# Altium footprint library Cap_EL.PcbLib: 28 footprints (part 1 of 2)
Each footprint in its own frame and in the unit in brackets; x right, y up, seen from the top. Pads: shape width x height; smd on the part's side, far side on the other; paste and mask are expansions set on the pad; w line width, h text height; cw(c..) or ccw(c..) is an arc to the next point about the centre after c.
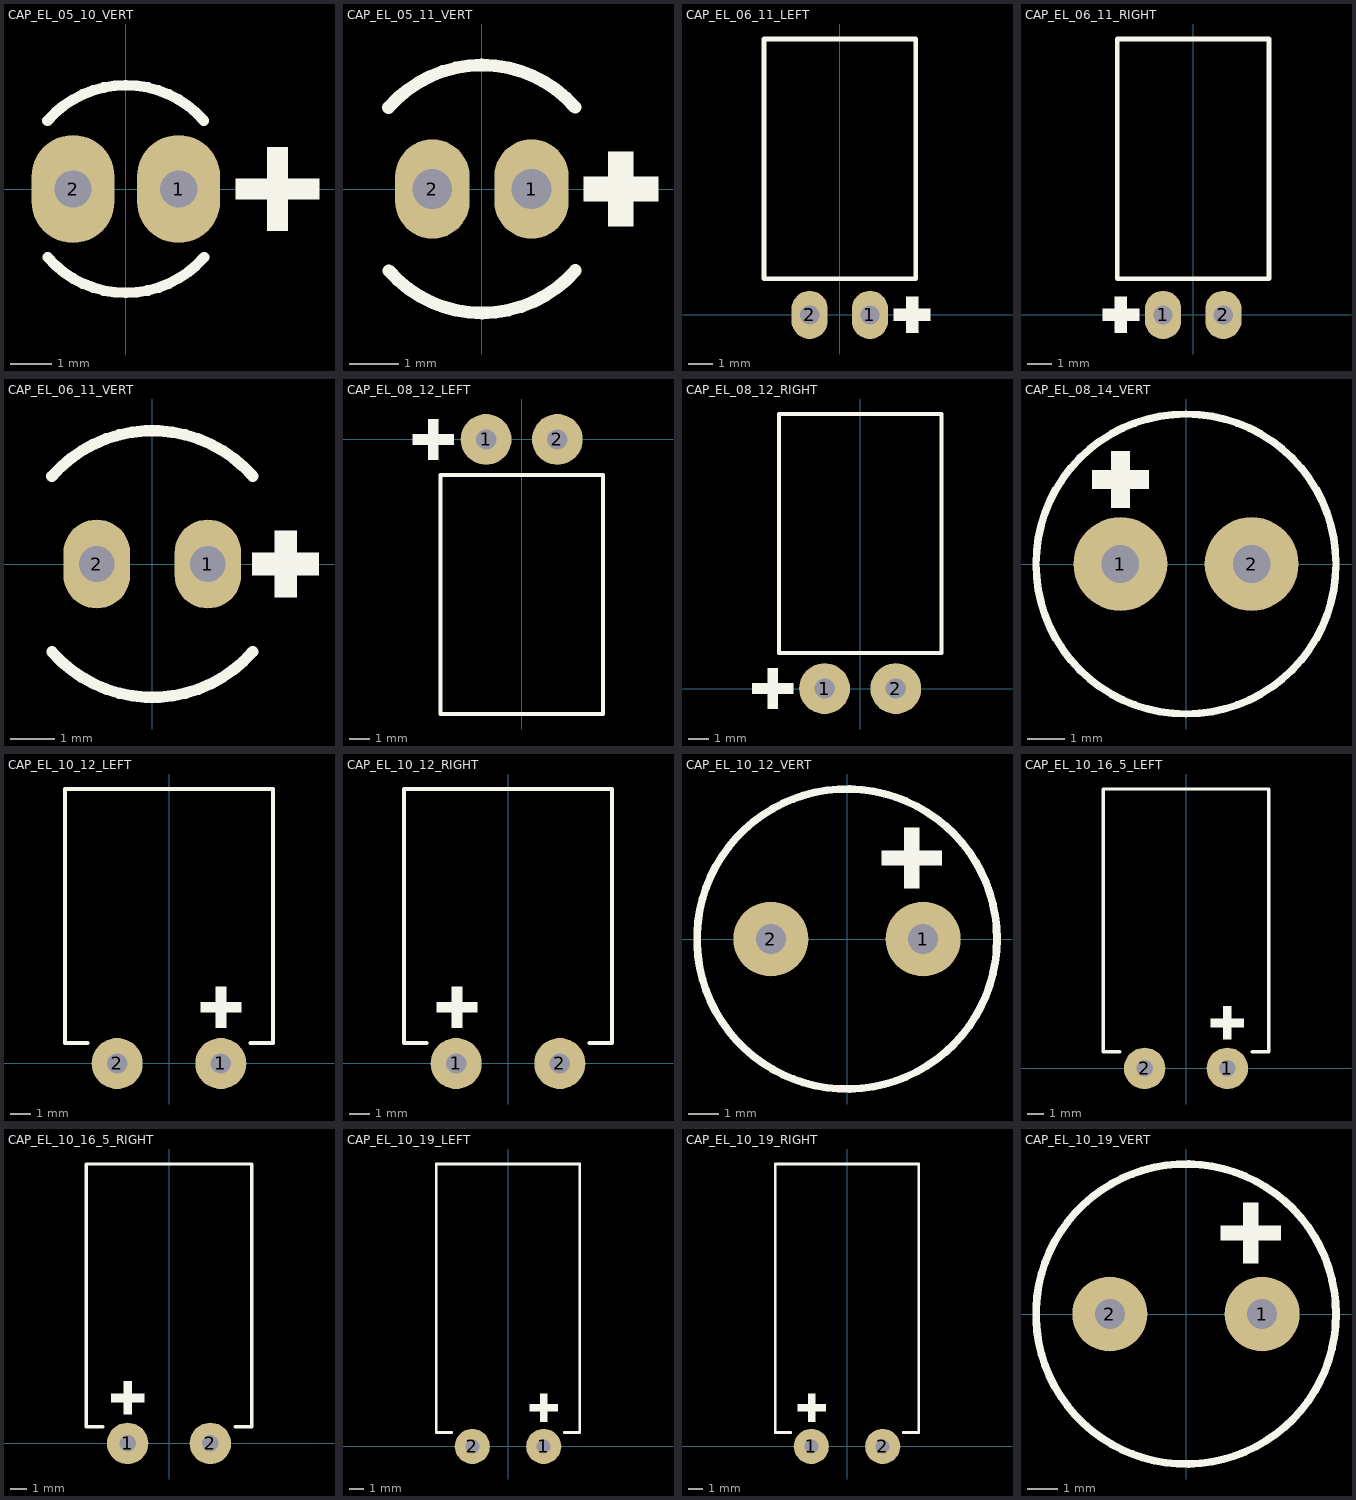
[diagram p0: the footprints below, top view; thin cyan lines are the x and y axes]

## CAP_EL_05_10_VERT [mm]
pads (2):
  oval 2x2.6 hole 0.9: 1(1.27,0) 2(-1.27,0)
Top Overlay:
  region: 2.65,0.25 2.65,-0.25 3.4,-0.25 3.4,-1 3.9,-1 3.9,-0.25 4.65,-0.25 4.65,0.25 3.9,0.25 3.9,1 3.4,1 3.4,0.25
  lines w0.254: -1.884,1.643 cw(c0,0) 1.881,1.646 ; -1.881,-1.646 ccw(c0,0) 1.884,-1.643
3D body: height 13.2, standoff -1.9, extent -2.538,-2.54 2.54,2.539

## CAP_EL_05_11_VERT [mm]
pads (2):
  oval 1.5x2 hole 0.8: 1(1,0) 2(-1,0)
Top Overlay:
  region: 2.05,0.25 2.05,-0.25 2.55,-0.25 2.55,-0.75 3.05,-0.75 3.05,-0.25 3.55,-0.25 3.55,0.25 3.05,0.25 3.05,0.75 2.55,0.75 2.55,0.25
  lines w0.254: -1.884,1.643 cw(c0,0) 1.881,1.646 ; -1.881,-1.646 ccw(c0,0) 1.884,-1.643
3D body: height 11.31, standoff -2.49, extent -2.502,-2.5 2.5,2.5

## CAP_EL_06_11_LEFT [mm]
pads (2):
  oval 1.5x2 hole 0.8: 1(1.25,0) 2(-1.25,0)
Top Overlay:
  region: 2.25,0.25 2.25,-0.25 2.75,-0.25 2.75,-0.75 3.25,-0.75 3.25,-0.25 3.75,-0.25 3.75,0.25 3.25,0.25 3.25,0.75 2.75,0.75 2.75,0.25
  lines w0.2: -3.15,1.5 -3.15,11.45 3.15,11.45 3.15,1.5 -3.15,1.5
3D body: height 6.64, standoff -2.5, extent -3.152,-0.25 3.15,11.452

## CAP_EL_06_11_RIGHT [mm]
pads (2):
  oval 1.5x2 hole 0.8: 1(-1.25,0) 2(1.25,0)
Top Overlay:
  region: -3.75,0.25 -3.75,-0.25 -3.25,-0.25 -3.25,-0.75 -2.75,-0.75 -2.75,-0.25 -2.25,-0.25 -2.25,0.25 -2.75,0.25 -2.75,0.75 -3.25,0.75 -3.25,0.25
  lines w0.2: -3.15,1.5 -3.15,11.45 3.15,11.45 3.15,1.5 -3.15,1.5
3D body: height 6.64, standoff -2.5, extent -3.15,-0.25 3.152,11.452

## CAP_EL_06_11_VERT [mm]
pads (2):
  oval 1.5x2 hole 0.8: 1(1.25,0) 2(-1.25,0)
Top Overlay:
  region: 2.25,0.25 2.25,-0.25 2.75,-0.25 2.75,-0.75 3.25,-0.75 3.25,-0.25 3.75,-0.25 3.75,0.25 3.25,0.25 3.25,0.75 2.75,0.75 2.75,0.25
  lines w0.254: -2.261,1.971 cw(c0,0) 2.258,1.976 ; -2.258,-1.976 ccw(c0,0) 2.261,-1.971
3D body: height 11.01, standoff -3.19, extent -3.15,-3.144 3.152,3.144

## CAP_EL_08_12_LEFT [mm]
pads (2):
  round 2.5 hole 1: 1(-1.75,0) 2(1.75,0)
Top Overlay:
  region: -5.35,0.25 -5.35,-0.25 -4.6,-0.25 -4.6,-1 -4.1,-1 -4.1,-0.25 -3.35,-0.25 -3.35,0.25 -4.1,0.25 -4.1,1 -4.6,1 -4.6,0.25
  lines w0.2: -4,-13.5 4,-13.5 4,-1.75 -4,-1.75 -4,-13.5
3D body: height 8.53, standoff -1.5, extent -4.025,-13.525 4.025,0.296

## CAP_EL_08_12_RIGHT [mm]
pads (2):
  round 2.5 hole 1: 1(-1.75,0) 2(1.75,0)
Top Overlay:
  region: -5.3,0.25 -5.3,-0.25 -4.55,-0.25 -4.55,-1 -4.05,-1 -4.05,-0.25 -3.3,-0.25 -3.3,0.25 -4.05,0.25 -4.05,1 -4.55,1 -4.55,0.25
  lines w0.2: -4,1.75 4,1.75 4,13.5 -4,13.5 -4,1.75
3D body: height 8.53, standoff -1.5, extent -4.025,-0.295 4.026,13.526

## CAP_EL_08_14_VERT [mm]
pads (2):
  round 2.5 hole 1: 1(-1.75,0) 2(1.75,0)
Top Overlay:
  circle w0.2: c0,0 r4
  region: -2.5,2.5 -2.5,2 -2,2 -2,1.5 -1.5,1.5 -1.5,2 -1,2 -1,2.5 -1.5,2.5 -1.5,3 -2,3 -2,2.5
3D body: height 14.01, standoff -3.29, extent -4,-3.996 4.002,3.997

## CAP_EL_10_12_LEFT [mm]
pads (2):
  round 2.5 hole 1: 1(2.54,0) 2(-2.54,0)
Top Overlay:
  region: 1.55,3 1.55,2.5 2.3,2.5 2.3,1.75 2.8,1.75 2.8,2.5 3.55,2.5 3.55,3 2.8,3 2.8,3.75 2.3,3.75 2.3,3
  lines w0.2: -4,1 -5.1,1 -5.1,13.45 5.1,13.45 5.1,1 4,1
3D body: height 10.31, standoff -2.75, extent -5.08,-0.3 5.044,13.45

## CAP_EL_10_12_RIGHT [mm]
pads (2):
  round 2.5 hole 1: 1(-2.54,0) 2(2.54,0)
Top Overlay:
  region: -3.5,3 -3.5,2.5 -2.75,2.5 -2.75,1.75 -2.25,1.75 -2.25,2.5 -1.5,2.5 -1.5,3 -2.25,3 -2.25,3.75 -2.75,3.75 -2.75,3
  lines w0.2: -4,1 -5.1,1 -5.1,13.45 5.1,13.45 5.1,1 4,1
3D body: height 10.31, standoff -2.75, extent -5.043,-0.3 5.08,13.45

## CAP_EL_10_12_VERT [mm]
pads (2):
  round 2.5 hole 1: 1(2.54,0) 2(-2.54,0)
Top Overlay:
  circle w0.254: c0,0 r5
  region: 1.15,2.95 1.15,2.45 1.9,2.45 1.9,1.7 2.4,1.7 2.4,2.45 3.15,2.45 3.15,2.95 2.4,2.95 2.4,3.7 1.9,3.7 1.9,2.95
3D body: height 13.11, standoff -2.09, extent -5.039,-5.062 5.08,5.063

## CAP_EL_10_16_5_LEFT [mm]
pads (2):
  round 2.5 hole 1: 1(2.5,0) 2(-2.5,0)
Top Overlay:
  region: 1.5,3 1.5,2.5 2.25,2.5 2.25,1.75 2.75,1.75 2.75,2.5 3.5,2.5 3.5,3 2.75,3 2.75,3.75 2.25,3.75 2.25,3
  lines w0.2: -4,1 -5,1 -5,16.9 5,16.9 5,1 4,1
3D body: height 10.28, standoff -1.75, extent -5.025,-0.3 5.025,16.923

## CAP_EL_10_16_5_RIGHT [mm]
pads (2):
  round 2.5 hole 1: 1(-2.5,0) 2(2.5,0)
Top Overlay:
  region: -3.5,3 -3.5,2.5 -2.75,2.5 -2.75,1.75 -2.25,1.75 -2.25,2.5 -1.5,2.5 -1.5,3 -2.25,3 -2.25,3.75 -2.75,3.75 -2.75,3
  lines w0.2: -4,1 -5,1 -5,16.9 5,16.9 5,1 4,1
3D body: height 10.28, standoff -1.75, extent -5.025,-0.3 5.025,16.923

## CAP_EL_10_19_LEFT [mm]
pads (2):
  round 2.5 hole 1: 1(2.54,0) 2(-2.54,0)
Top Overlay:
  region: 1.55,3 1.55,2.5 2.3,2.5 2.3,1.75 2.8,1.75 2.8,2.5 3.55,2.5 3.55,3 2.8,3 2.8,3.75 2.3,3.75 2.3,3
  lines w0.2: -4,1 -5.1,1 -5.1,20.1 5.1,20.1 5.1,1 4,1
3D body: height 10.58, standoff -2.5, extent -5.08,-0.3 5.085,20

## CAP_EL_10_19_RIGHT [mm]
pads (2):
  round 2.5 hole 1: 1(-2.54,0) 2(2.54,0)
Top Overlay:
  region: -3.5,3 -3.5,2.5 -2.75,2.5 -2.75,1.75 -2.25,1.75 -2.25,2.5 -1.5,2.5 -1.5,3 -2.25,3 -2.25,3.75 -2.75,3.75 -2.75,3
  lines w0.2: -4,1 -5.1,1 -5.1,20.1 5.1,20.1 5.1,1 4,1
3D body: height 10.58, standoff -2.5, extent -5.08,-0.3 5.085,20

## CAP_EL_10_19_VERT [mm]
pads (2):
  round 2.5 hole 1: 1(2.54,0) 2(-2.54,0)
Top Overlay:
  circle w0.254: c0,0 r5
  region: 1.15,2.95 1.15,2.45 1.9,2.45 1.9,1.7 2.4,1.7 2.4,2.45 3.15,2.45 3.15,2.95 2.4,2.95 2.4,3.7 1.9,3.7 1.9,2.95
3D body: height 20.33, standoff -2.89, extent -5.08,-5.067 5.08,5.067